# Altium schematic symbol library MP4541GN-Z.SchLib: 1 symbol
Pins are listed as number, name and electrical type; pins without a type are passive.

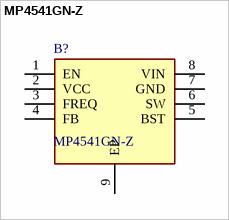
[diagram p0: symbol MP4541GN-Z]

## MP4541GN-Z
designator B?
Switching Voltage Regulators 80V, 0.8A Synchronous Buck Converter; Manufacturer_Name: Monolithic Power Systems (MPS); Geometry.Height: 1.7mm; Mouser Part Number: 946-MP4541GN-Z; Mouser Price/Stock: https://www.mouser.co.uk/ProductDetail/Monolithic-Power-Systems-MPS/MP4541GN-Z?qs=TCDPyi3sCW3JrMFxnpK4AA%3D%3D; Manufacturer_Part_Number: MP4541GN-Z; Datasheet Link: https://www.monolithicpower.com/en/documentview/productdocument/index/version/2/document_type/Datasheet/lang/en/sku/MP4541GN/
footprint SOIC127P600X170-9N
pins: 1 EN, 2 VCC, 3 FREQ, 4 FB, 5 BST, 6 SW, 7 GND, 8 VIN, 9 EP